# EAGLE library part EL4585CSZ (library Intersil_By_element14_Batch_1)
Horizontal Genlock, 8FSC
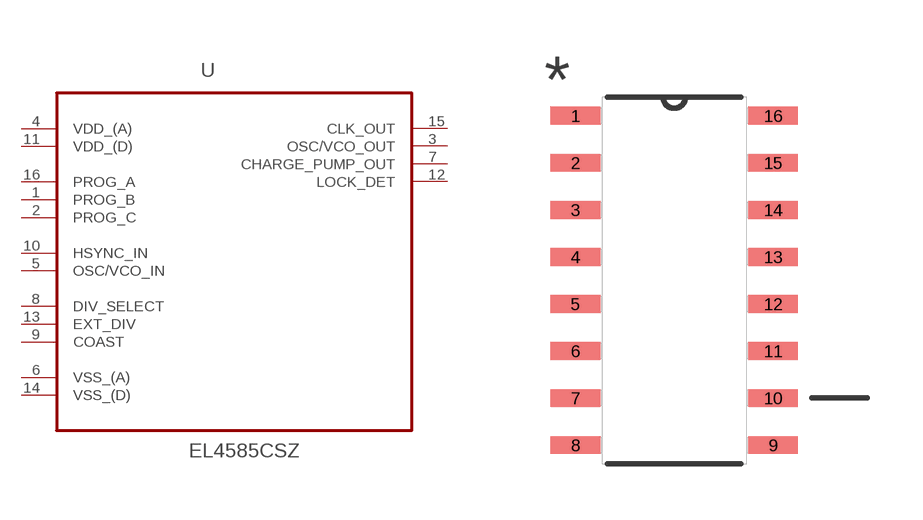
[diagram p58: symbol with the pads of SOIC127P600X172-16N; footprint SOIC127P600X172-16N]

Designator prefix U

## EL4585CSZ (MPN: EL4585CSZ; OC_FARNELL: 1562044; OC_NEWARK: 57K3178; PACKAGE: SOIC-16; SUPPLIER: INTERSIL)  [SOIC127P600X172-16N]
1  PROG_B  in
2  PROG_C  in
3  OSC/VCO_OUT  out
4  VDD_(A)  pwr
5  OSC/VCO_IN  in
6  VSS_(A)  pas
7  CHARGE_PUMP_OUT  out
8  DIV_SELECT  in
9  COAST  in
10  HSYNC_IN  in
11  VDD_(D)  pwr
12  LOCK_DET  out
13  EXT_DIV  in
14  VSS_(D)  pas
15  CLK_OUT  out
16  PROG_A  in

## Footprint SOIC127P600X172-16N (pad centres in mm)
smd 1.346 x 0.483: 1 -2.667,4.445; 2 -2.667,3.175; 3 -2.667,1.905; 4 -2.667,0.635; 5 -2.667,-0.635; 6 -2.667,-1.905; 7 -2.667,-3.175; 8 -2.667,-4.445; 9 2.667,-4.445; 10 2.667,-3.175; 11 2.667,-1.905; 12 2.667,-0.635; 13 2.667,0.635; 14 2.667,1.905; 15 2.667,3.175; 16 2.667,4.445